# EAGLE library part MR2XHXX (library BrownSpaceEngineering)
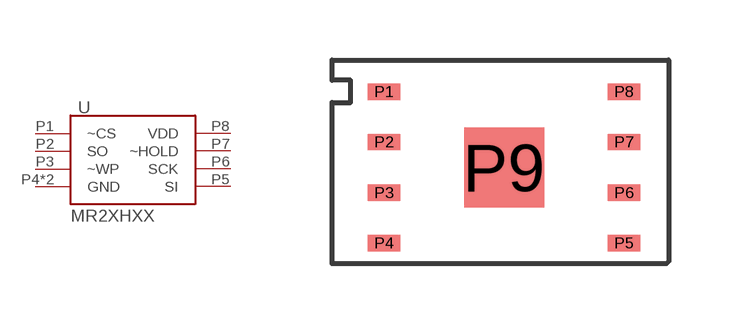
[diagram p5: symbol with the pads of 8PXMO-229; footprint 8PXMO-229]

Designator prefix U

## MR2XHXX  [8PXMO-229]
P1  ~CS
P2  SO
P3  ~WP
P4  GND
P5  SI
P6  SCK
P7  ~HOLD
P8  VDD
P9  GND

## Footprint 8PXMO-229 (pad centres in mm)
smd 0.813 x 0.406: P1 -3,1.895; P2 -3,0.635; P3 -3,-0.635; P4 -3,-1.895; P5 3,-1.895; P6 3,-0.635; P7 3,0.635; P8 3,1.895
smd 2 x 2: P9 0,0